# Altium schematic symbol library SafetySocket.SchLib: 34 symbols
Pins are listed as number, name and electrical type; pins without a type are passive.

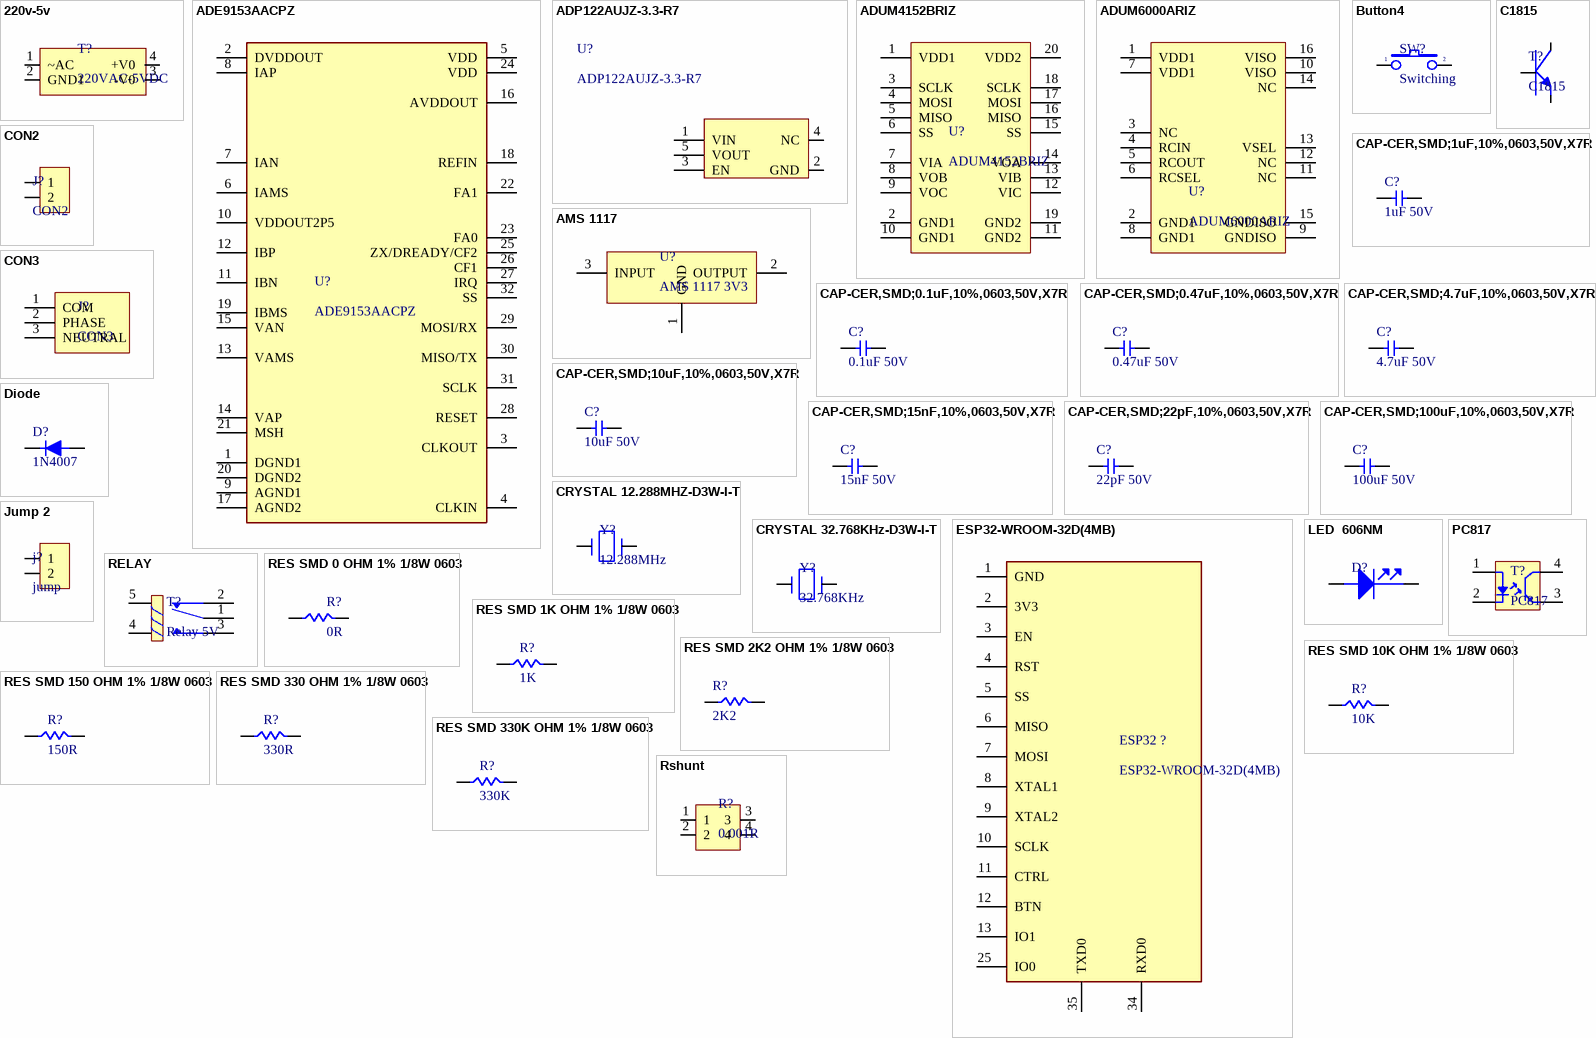
[diagram p0: symbols 220v-5v to Rshunt]

## 220v-5v
designator T?, comment 220VAC-5VDC
footprint 220-5v
pins: 1 ~AC, 2 GND1, 3 -V0, 4 +V0

## ADE9153AACPZ
designator U?
Energy Measurement 32-Pin LFCSP EP Tray; Manufacturer: Analog Devices; Operating Supply Current: 9.3mA; Stock 1: 733; Mount: Surface Mount; Number of Pins: 32; Min Operating Temperature: -40°C; Max Operating Temperature: 85°C; Packaging: Tray; ComponentLink1URL: https://www.analog.com/media/en/technical-documentation/data-sheets/ade9153a.pdf?src-supplier=Digi-Key; ComponentLink1Description: https://www.analog.com/media/en/technical-documentation/data-sheets/ade9153a.pdf?src-supplier=Digi-Key; Supplier 1: Digi-Key; Supplier Part Number 1: ADE9153AACPZ-ND; Manufacturer Part Number: ADE9153AACPZ; Pricing 1: 1=7, 10=6.321, 25=6.0272, 100=4.998, 250=4.557, 500=4.263, 1000=3.9102 (USD)
footprint ADE9153
pins: 1 DGND1, 2 DVDDOUT (power), 3 CLKOUT, 4 CLKIN, 5 VDD (power), 6 IAMS, 7 IAN, 8 IAP, 9 AGND1, 10 VDDOUT2P5 (power), 11 IBN, 12 IBP, 13 VAMS, 14 VAP, 15 VAN, 16 AVDDOUT (power), 17 AGND2, 18 REFIN (power), 19 IBMS, 20 DGND2, 21 MSH, 22 FA1, 23 FA0, 24 VDD (power), 25 ZX/DREADY/CF2, 26 CF1, 27 IRQ, 28 RESET, 29 MOSI/RX, 30 MISO/TX, 31 SCLK, 32 SS

## ADP122AUJZ-3.3-R7
designator U?
ANALOG DEVICES         ADP122AUJZ-3.3-R7            LDO VOLTAGE REGULATOR, 3.3V, 0.3A, TSOT-5, FULL REEL; Number of Outputs: 1; Dropout Voltage: 85mV; Output Current: 300mA; Max Input Voltage: 5.5V; Min Input Voltage: 2.3V; Min Current Limit: 350mA; Polarity: Positive; Reference Voltage: 500mV; Quiescent Current: 45uA; Min Output Voltage: 1.75V; Output Voltage Accuracy: 1%; Power Supply Rejection Ratio (PSRR): 60dB; Max Supply Current: 170uA; Output Type: Fixed; Stock 1: 25165; Case/Package: TSOT; Number of Pins: 5; Min Operating Temperature: -40°C; Max Operating Temperature: 125°C; Nominal Output Voltage: 3.3V; Output Voltage: 3.3V; Max Output Current: 300mA; Packaging: Tape and Reel; Number of Regulators: 1; Max Output Voltage: 3.3V; Accuracy: 1%; Operating Supply Current: 45uA; Length: 2.9mm; Width: 1.6mm; Height: 0.9mm; Radiation Hardening: No; REACH SVHC: No SVHC; Lead Free: Contains Lead; ComponentLink1URL: https://www.analog.com/media/en/technical-documentation/data-sheets/ADP122_123.pdf?src-supplier=Digi-Key; ComponentLink1Description: https://www.analog.com/media/en/technical-documentation/data-sheets/ADP122_123.pdf?src-supplier=Digi-Key; ComponentLink2URL: http://www.farnell.com/datasheets/1610867.pdf?src-supplier=Element14; ComponentLink2Description: http://www.farnell.com/datasheets/1610867.pdf?src-supplier=Element14; ComponentLink3URL: http://uk.rs-online.com/webdocs/1295/0900766b81295c98.pdf?src-supplier=RSComponents; ComponentLink3Description: http://uk.rs-online.com/webdocs/1295/0900766b81295c98.pdf?src-supplier=RSComponents; ComponentLink4URL: http://www.analog.com/static/imported-files/data_sheets/ADP122_123.pdf?src-supplier=Avnet; ComponentLink4Description: http://www.analog.com/static/imported-files/data_sheets/ADP122_123.pdf?src-supplier=Avnet; Supplier 1: Digi-Key; Supplier Part Number 1: ADP122AUJZ-3.3-R7DKR-ND; Manufacturer: Analog Devices; Manufacturer Part Number: ADP122AUJZ-3.3-R7; Pricing 1: 1=1.16, 10=1.033, 25=0.98, 100=0.7525, 250=0.665, 500=0.63, 1000=0.49 (USD)
footprint ADP122AUJZ-3.3-R7
pins: 1 VIN, 2 GND, 3 EN, 4 NC, 5 VOUT

## ADUM4152BRIZ
designator U?
Digital Isolator 20-Pin SOIC Tube; Manufacturer: Analog Devices; Number of Channels: 7; Channel Type: Unidirectional; Data Rate: 34Mbps; Propagation Delay: 14ns; Max Input Current: 17.5mA; Isolation Voltage: 5kV; Rise Time: 2.5ns; Polarity: Bidirectional; Max Supply Voltage: 5.5V; Min Supply Voltage: 3V; Max Power Dissipation: 2.4W; Isolated Power: No; Pulse Width Distortion (PWD): 2ns; Stock 1: 0; Mount: Surface Mount; Case/Package: SOIC; Number of Pins: 20; Weight: 0.028254oz; Min Operating Temperature: -40°C; Max Operating Temperature: 125°C; Packaging: Rail/Tube; Package Quantity: 31; Length: 15.4mm; Width: 7.6mm; Depth: 2.44mm; Lead Free: Contains Lead; ComponentLink1URL: http://www.mouser.com/ds/2/609/ADuM4151_4152_4153-534213.pdf?src-supplier=Mouser; ComponentLink1Description: http://www.mouser.com/ds/2/609/ADuM4151_4152_4153-534213.pdf?src-supplier=Mouser; ComponentLink2URL: http://uk.rs-online.com/webdocs/1351/0900766b81351fa6.pdf?src-supplier=RSComponents; ComponentLink2Description: http://uk.rs-online.com/webdocs/1351/0900766b81351fa6.pdf?src-supplier=RSComponents; ComponentLink3URL: http://www.analog.com/media/en/technical-documentation/data-sheets/ADuM4151_4152_4153.pdf?src-supplier=Digi-Key; ComponentLink3Description: http://www.analog.com/media/en/technical-documentation/data-sheets/ADuM4151_4152_4153.pdf?src-supplier=Digi-Key; ComponentLink4URL: http://www.analog.com/static/imported-files/data_sheets/ADuM4151_4152_4153.pdf?src-supplier=Avnet; ComponentLink4Description: http://www.analog.com/static/imported-files/data_sheets/ADuM4151_4152_4153.pdf?src-supplier=Avnet; Supplier 1: Digi-Key; Supplier Part Number 1: ADUM4152BRIZ-ND; Manufacturer Part Number: ADUM4152BRIZ; Pricing 1: 1=10.38, 10=9.374, 25=8.938, 100=7.412, 250=6.758, 500=6.322, 1000=5.7988 (USD)
footprint ADUM4152BRIZ
pins: 1 VDD1 (power) "Primary Supply Voltage 3.0 V to 5.5 V. Pin 1 and Pin 7 are internally connected to each other, and it is recom-mended that both pins be externally connected to a common power source.", 2 GND1 (power) "Ground reference for the primary side of the converter. Pin 2 and Pin 8 are internally connected to each other, and it is recommended that both pins be connected to a common ground.", 3 SCLK "No Internal Connection.", 4 MOSI "Regulation Control Input. In slave power configuration (RCSEL = low), this pin is connected to the RCOUT pin of a master isoPower device, or tied low to disable the converter. In master/standalone mode (RCSEL = high), this (See Datasheet)", 5 MISO "Regulation Control Input. In slave power configuration (RCSEL low), this pin is connected to the RCOUT pin of a master isoPower device, or it is tied low to disable the converter. In master or standalone mode (RCSEL high), (See Datasheet)", 6 SS "Control Input. Sets either self-regulation/master mode (RCSEL high) or slave mode (RCSEL low). This pin is weakly pulled to the high state. In noisy environments, tie this pin either high or low.", 7 VIA "Primary Supply Voltage 3.0 V to 5.5 V. Pin 1 and Pin 7 are internally connected to each other, and it is recom-mended that both pins be externally connected to a common power source.", 8 VOB (power) "Ground reference for the primary side of the converter. Pin 2 and Pin 8 are internally connected to each other, and it is recommended that both pins be connected to a common ground.", 9 VOC (power) "Ground Reference for the Secondary Side of the Converter. Pin 9 and Pin 15 are internally connected to each other, and it is recommended that both pins be connected to a common ground.", 10 GND1 (power) "Secondary Supply Voltage Output for External Loads, 3.3 V (VSEL low) or 5.0 V (VSEL high). 5.0 V output functionality is not guaranteed for a 3.3 V primary supply input. Pin 10 and Pin 16 are internally connected to each (See Datasheet)", 11 GND2 (power) "Ground Reference for the Secondary Side of the Converter. Pin 9 and Pin 15 are internally connected to each other, and it is recommended that both pins be connected to a common ground.", 12 VIC "No Internal Connection.", 13 VIB "Output Voltage Selection. When VSEL = VISO, the VISO setpoint is 5.0 V. When VSEL = GNDISO, the VISO setpoint is 3.3 V. This pin is weakly pulled to high. In noisy environments, tie this pin either high or low. In slave (See Datasheet)", 14 VOA "No Internal Connection.", 15 SS, 16 MISO, 17 MOSI, 18 SCLK, 19 GND2 "No Internal Connection.", 20 VDD2 (power) "Secondary Supply Voltage Output for External Loads, 3.3 V (VSEL low) or 5.0 V (VSEL high). 5.0 V output functionality is not guaranteed for a 3.3 V primary supply input. Pin 10 and Pin 16 are internally connected to each (See Datasheet)"

## ADUM6000ARIZ
designator U?
ANALOG DEVICES         ADUM6000ARIZ            Digital Isolator, 1 Channel, 3 V, 5.5 V, SOIC, 16 Pins; Number of Outputs: 1; Output Current: 80mA; Min Input Voltage: 3V; Max Output Current: 100mA; Max Input Voltage: 5.5V; Efficiency: 31%; Voltage - Output 1: 5V; Isolation Voltage: 5kV; Max Output Power: 400mW; Switching Frequency: 180MHz; Output Type: Fixed; Nominal Supply Current: 290mA; Stock 1: 137; Case/Package: SOIC; Number of Pins: 16; Contact Plating: Tin,Matte; Min Operating Temperature: -40°C; Max Operating Temperature: 105°C; Packaging: Rail/Tube; Package Quantity: 37; Max Power Dissipation: 400mW; Features: UVLO,OCP,OTP; Series: IsoPower®, iCoupler®; Max Supply Voltage: 5.5V; Output Voltage: 5V; Min Supply Voltage: 3V; Number of Channels: 1; Max Output Voltage: 5V; Supply Current: 290mA; Length: 0.5inch; Width: 7.6mm; Height: 0.1inch; Radiation Hardening: No; Lead Free: Contains Lead; REACH SVHC: No SVHC; ComponentLink1URL: https://www.verical.com/server-webapp/html/getDatasheet?partID=350224&src-supplier=Verical; ComponentLink1Description: https://www.verical.com/server-webapp/html/getDatasheet?partID=350224&src-supplier=Verical; ComponentLink2URL: http://www.farnell.com/datasheets/1793817.pdf?src-supplier=Element14; ComponentLink2Description: http://www.farnell.com/datasheets/1793817.pdf?src-supplier=Element14; ComponentLink3URL: https://www.analog.com/media/en/technical-documentation/data-sheets/ADuM6000.PDF?src-supplier=Digi-Key; ComponentLink3Description: https://www.analog.com/media/en/technical-documentation/data-sheets/ADuM6000.PDF?src-supplier=Digi-Key; ComponentLink4URL: http://www.analog.com/static/imported-files/data_sheets/ADuM6000.PDF?src-supplier=Avnet; ComponentLink4Description: http://www.analog.com/static/imported-files/data_sheets/ADuM6000.PDF?src-supplier=Avnet; ComponentLink5URL: http://components.arrow.com/part/dataview/51362085S9098404N2771?src-supplier=Arrow+Electronics; ComponentLink5Description: http://components.arrow.com/part/dataview/51362085S9098404N2771?src-supplier=Arrow+Electronics; Supplier 1: Digi-Key; Supplier Part Number 1: ADUM6000ARIZ-ND; Manufacturer: Analog Devices; Manufacturer Part Number: ADUM6000ARIZ; Pricing 1: 1=9.42, 10=8.514, 25=8.118, 100=7.0488, 250=6.732, 500=6.138 (USD)
footprint ADUM6000ARIZ
pins: 1 VDD1 (power) "Primary Supply Voltage 3.0 V to 5.5 V. Pin 1 and Pin 7 are internally connected to each other, and it is recom-mended that both pins be externally connected to a common power source.", 2 GND1 (power) "Ground reference for the primary side of the converter. Pin 2 and Pin 8 are internally connected to each other, and it is recommended that both pins be connected to a common ground.", 3 NC "No Internal Connection.", 4 RCIN "Regulation Control Input. In slave power configuration (RCSEL = low), this pin is connected to the RCOUT pin of a master isoPower device, or tied low to disable the converter. In master/standalone mode (RCSEL = high), this (See Datasheet)", 5 RCOUT "Regulation Control Input. In slave power configuration (RCSEL low), this pin is connected to the RCOUT pin of a master isoPower device, or it is tied low to disable the converter. In master or standalone mode (RCSEL high), (See Datasheet)", 6 RCSEL "Control Input. Sets either self-regulation/master mode (RCSEL high) or slave mode (RCSEL low). This pin is weakly pulled to the high state. In noisy environments, tie this pin either high or low.", 7 VDD1 (power) "Primary Supply Voltage 3.0 V to 5.5 V. Pin 1 and Pin 7 are internally connected to each other, and it is recom-mended that both pins be externally connected to a common power source.", 8 GND1 (power) "Ground reference for the primary side of the converter. Pin 2 and Pin 8 are internally connected to each other, and it is recommended that both pins be connected to a common ground.", 9 GNDISO (power) "Ground Reference for the Secondary Side of the Converter. Pin 9 and Pin 15 are internally connected to each other, and it is recommended that both pins be connected to a common ground.", 10 VISO (power) "Secondary Supply Voltage Output for External Loads, 3.3 V (VSEL low) or 5.0 V (VSEL high). 5.0 V output functionality is not guaranteed for a 3.3 V primary supply input. Pin 10 and Pin 16 are internally connected to each (See Datasheet)", 11 NC "No Internal Connection.", 12 NC "No Internal Connection.", 13 VSEL "Output Voltage Selection. When VSEL = VISO, the VISO setpoint is 5.0 V. When VSEL = GNDISO, the VISO setpoint is 3.3 V. This pin is weakly pulled to high. In noisy environments, tie this pin either high or low. In slave (See Datasheet)", 14 NC "No Internal Connection.", 15 GNDISO (power) "Ground Reference for the Secondary Side of the Converter. Pin 9 and Pin 15 are internally connected to each other, and it is recommended that both pins be connected to a common ground.", 16 VISO (power) "Secondary Supply Voltage Output for External Loads, 3.3 V (VSEL low) or 5.0 V (VSEL high). 5.0 V output functionality is not guaranteed for a 3.3 V primary supply input. Pin 10 and Pin 16 are internally connected to each (See Datasheet)"

## AMS 1117
designator U?, comment AMS 1117 3V3
footprint AMS 1117
pins: 1 GND, 2 OUTPUT, 3 INPUT

## Button4
designator SW?, comment Switching
footprint Button 4
pins: 1, 2

## C1815
designator T?
footprint C1815
pins: 1, 2, 3

## CAP-CER,SMD;0.1uF,10%,0603,50V,X7R
designator C?, comment 0.1uF 50V
footprint Cap 0603
pins: 1, 2

## CAP-CER,SMD;0.47uF,10%,0603,50V,X7R
designator C?, comment 0.47uF 50V
footprint Cap 0603
pins: 1, 2

## CAP-CER,SMD;1uF,10%,0603,50V,X7R
designator C?, comment 1uF 50V
footprint Cap 0603
pins: 1, 2

## CAP-CER,SMD;4.7uF,10%,0603,50V,X7R
designator C?, comment 4.7uF 50V
footprint Cap 0603
pins: 1, 2

## CAP-CER,SMD;10uF,10%,0603,50V,X7R
designator C?, comment 10uF 50V
footprint Cap 0603
pins: 1, 2

## CAP-CER,SMD;15nF,10%,0603,50V,X7R
designator C?, comment 15nF 50V
footprint Cap 0603
pins: 1, 2

## CAP-CER,SMD;22pF,10%,0603,50V,X7R
designator C?, comment 22pF 50V
footprint Cap 0603
pins: 1, 2

## CAP-CER,SMD;100uF,10%,0603,50V,X7R
designator C?, comment 100uF 50V
footprint Cap 0603
pins: 1, 2

## CON2
designator J?
footprint CON2
pins: 1, 2

## CON3
designator J?
footprint CON3
pins: 1 COM, 2 PHASE, 3 NEUTRAL

## CRYSTAL 12.288MHZ-D3W-I-T
designator Y?, comment 12.288MHz
CRYSTAL 12.2880MHZ 18PF SMD; Manufacturer: Abracon; Manufacturer Part Number: ABLS-12.288MHZ-B4-T; Frequency Tolerance: 30ppm; ESR (Equivalent Series Resistance): 50R; Frequency Stability: 50ppm; Stock 1: 10; Mount: Surface Mount; Case/Package: SMD/SMT; Min Operating Temperature: -20°C; Max Operating Temperature: 70°C; Package Quantity: 1000; Frequency: 12.288MHz; Load Capacitance: 18pF; Packaging: Tape and Reel; Tolerance: 30ppm; Termination: SMD/SMT; Series Resistance: 50R; Series: ABLS; Length: 0.449inch; Width: 0.185inch; Height: 0.165inch; Radiation Hardening: No; ComponentLink1URL: https://abracon.com/Support/PackageDrawing/Resonators/ABLS-2D.pdf?src-supplier=Digi-Key; ComponentLink1Description: https://abracon.com/Support/PackageDrawing/Resonators/ABLS-2D.pdf?src-supplier=Digi-Key; ComponentLink2URL: http://www.abracon.com/Resonators/abls.pdf?src-supplier=Digi-Key; ComponentLink2Description: http://www.abracon.com/Resonators/abls.pdf?src-supplier=Digi-Key; ComponentLink3URL: https://www.verical.com/server-webapp/html/getDatasheet?partID=719932&src-supplier=Verical; ComponentLink3Description: https://www.verical.com/server-webapp/html/getDatasheet?partID=719932&src-supplier=Verical; ComponentLink4URL: http://www.abracon.com/Resonators/abls.pdf?src-supplier=Avnet; ComponentLink4Description: http://www.abracon.com/Resonators/abls.pdf?src-supplier=Avnet; ComponentLink5URL: http://www.mouser.com/ds/2/3/abls-44621.pdf?src-supplier=Mouser; ComponentLink5Description: http://www.mouser.com/ds/2/3/abls-44621.pdf?src-supplier=Mouser; Supplier 1: Digi-Key; Supplier Part Number 1: 535-10219-6-ND; Pricing 1: 1=0.32, 10=0.264, 50=0.2376, 100=0.2112, 500=0.20064 (USD)
footprint CRYSTAL 12.288MHZ
pins: 1, 2

## CRYSTAL 32.768KHz-D3W-I-T
designator Y?, comment 32.768KHz
CRYSTAL 32.7680 KHZ 12.5PF SMD; Manufacturer: Epson; Manufacturer Part Number: FC-13532.7680KA-A5; Frequency Tolerance: 20ppm; ESR (Equivalent Series Resistance): 70kR; Stock 1: 0; Mount: Surface Mount; Case/Package: SMD/SMT; Min Operating Temperature: -40°C; Max Operating Temperature: 85°C; Load Capacitance: 12.5pF; Packaging: Cut Tape; Frequency: 32.768kHz; Length: 0.126inch; Width: 0.061inch; Height - Seated (Max): 0.035inch; ComponentLink1URL: https://support.epson.biz/td/api/doc_check.php?dl=brief_FC-135&lang=en&src-supplier=Digi-Key; ComponentLink1Description: https://support.epson.biz/td/api/doc_check.php?dl=brief_FC-135&lang=en&src-supplier=Digi-Key; Supplier 1: Digi-Key; Supplier Part Number 1: SER4103DKR-ND; Pricing 1: 1=0.38, 10=0.313, 50=0.2812, 100=0.25, 500=0.2375, 1000=0.2 (USD)
footprint XTAL 32.768KHz
pins: 1, 2

## Diode
designator D?, comment 1N4007
footprint DIODE
pins: 1 ANODE, 2 CATHODE

## ESP32-WROOM-32D(4MB)
designator ESP32 ?
Bluetooth and Wi-Fi Module 2.4GHz to 2.5GHz 2.7V to 3.6V 4MB Flash 38-Pin SMD Module; Manufacturer: Espressif Systems; Stock 1: 0; Supplier 1: Digi-Key; Supplier Part Number 1: 1965-ESP32-WROOM-32D(4MB)CT-ND; Manufacturer Part Number: ESP32-WROOM-32D(4MB)
footprint ESP32
pins: 1 GND, 2 3V3, 3 EN, 4 RST, 5 SS, 6 MISO, 7 MOSI, 8 XTAL1, 9 XTAL2, 10 SCLK, 11 CTRL, 12 BTN, 13 IO1, 25 IO0, 34 RXD0, 35 TXD0

## Jump 2
designator j?, comment jump
footprint Jump 2
pins: 1, 2

## LED  606NM
designator D?, comment Led  (value not drawn)
footprint led xanh
pins: 1 ANODE, 2 cathode

## PC817
designator T?
footprint PC817
pins: 1, 2, 3, 4  4

## RELAY
designator T?, comment Relay 5V
footprint RELAY
pins: 1, 2, 3, 4, 5

## RES SMD 0 OHM 1% 1/8W 0603
designator R?, comment 0R
footprint Res 0603
pins: 1, 2

## RES SMD 1K OHM 1% 1/8W 0603
designator R?, comment 1K
footprint Res 0603
pins: 1, 2

## RES SMD 2K2 OHM 1% 1/8W 0603
designator R?, comment 2K2
footprint Res 0603
pins: 1, 2

## RES SMD 10K OHM 1% 1/8W 0603
designator R?, comment 10K
footprint Res 0603
pins: 1, 2

## RES SMD 150 OHM 1% 1/8W 0603
designator R?, comment 150R
footprint Res 0603
pins: 1, 2

## RES SMD 330 OHM 1% 1/8W 0603
designator R?, comment 330R
footprint Res 0603
pins: 1, 2

## RES SMD 330K OHM 1% 1/8W 0603
designator R?, comment 330K
footprint Res 0603
pins: 1, 2

## Rshunt
designator R?, comment 0.001R
footprint Rshunt
pins: 1, 2, 3, 4